# Altium footprint library Footprints.PcbLib: 67 footprints (part 4 of 5)
Each footprint in its own frame and in the unit in brackets; x right, y up, seen from the top. Pads: shape width x height; smd on the part's side, far side on the other; paste and mask are expansions set on the pad; w line width, h text height; cw(c..) or ccw(c..) is an arc to the next point about the centre after c.
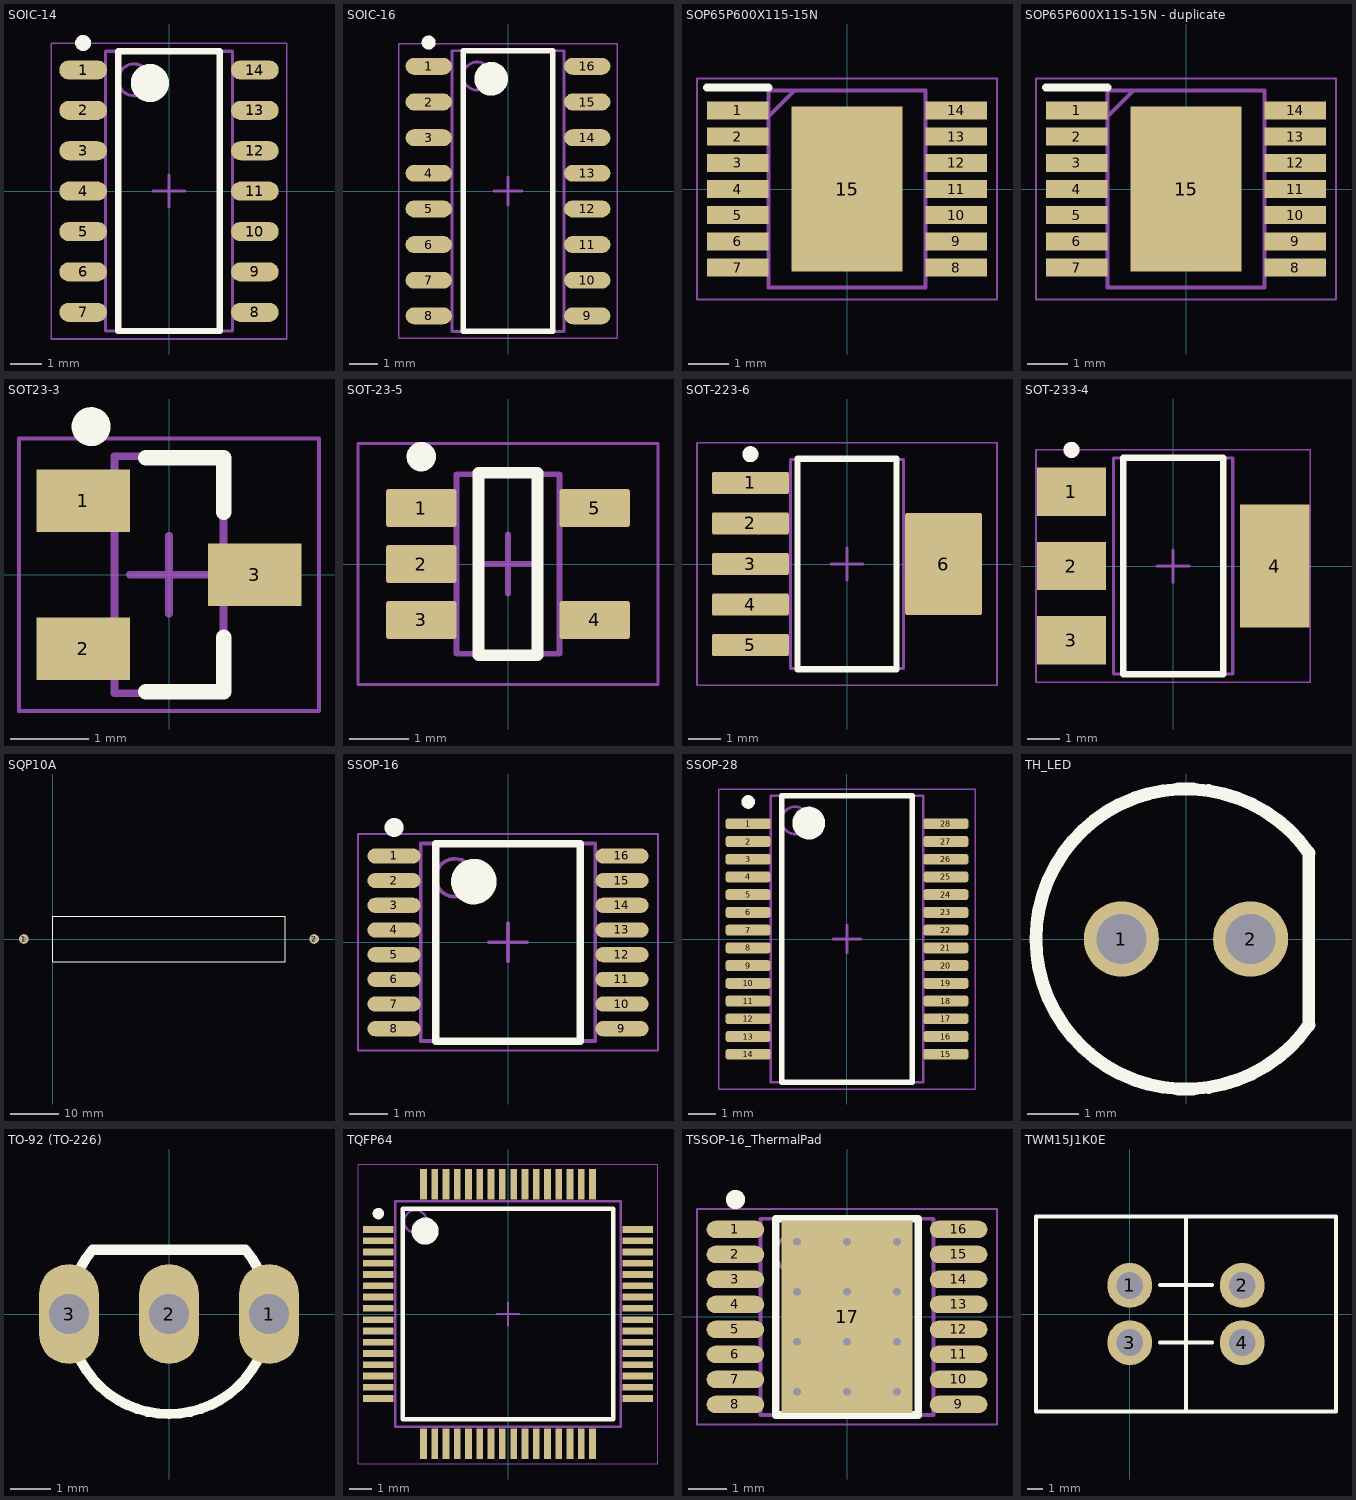
[diagram p3: the footprints below, top view; thin cyan lines are the x and y axes]

## SOIC-14 [mm] "SOIC, 14-Leads, Body 8.65x3.90mm, Pitch 1.27mm, IPC Medium Density"
height 1.75
pads (14):
  oval 1.5x0.6 smd: 1(-2.7,3.81) 2(-2.7,2.54) 3(-2.7,1.27) 4(-2.7,0) 5(-2.7,-1.27) 6(-2.7,-2.54) 7(-2.7,-3.81) 8(2.7,-3.81) 9(2.7,-2.54) 10(2.7,-1.27) 11(2.7,0) 12(2.7,1.27) 13(2.7,2.54) 14(2.7,3.81)
Top Overlay:
  circle w0.6: c-0.6,3.4 r0.3
  circle w0.25: c-2.7,4.66 r0.125
  lines w0.2: -1.6,-4.4 1.6,-4.4 1.6,4.4 -1.6,4.4 -1.6,-4.4
Mechanical 13:
  circle w0.1: c-1.1,3.5 r0.5
  lines w0.1: -2,-4.4 2,-4.4 2,4.4 -2,4.4 -2,-4.4
Mechanical 15:
  lines w0.05: -3.7,-4.65 3.7,-4.65 3.7,4.65 -3.7,4.65 -3.7,-4.65
  lines w0.1: -0.5,0 0.5,0 ; 0,-0.5 0,0.5
3D body "SOIC-14.step": height 1.75, standoff 0, extent -3,-4.4 3,4.4

## SOIC-16 [mm] "SOIC, 16-Leads, Body 9.90x3.90mm, Pitch 1.27mm, IPC Medium Density"
height 1.75
pads (16):
  oval 1.65x0.6 smd: 1(-2.825,4.445) 2(-2.825,3.175) 3(-2.825,1.905) 4(-2.825,0.635) 5(-2.825,-0.635) 6(-2.825,-1.905) 7(-2.825,-3.175) 8(-2.825,-4.445) 9(2.825,-4.445) 10(2.825,-3.175) 11(2.825,-1.905) 12(2.825,-0.635) 13(2.825,0.635) 14(2.825,1.905) 15(2.825,3.175) 16(2.825,4.445)
Top Overlay:
  circle w0.6: c-0.6,4 r0.3
  circle w0.25: c-2.825,5.295 r0.125
  lines w0.2: -1.6,-5 1.6,-5 1.6,5 -1.6,5 -1.6,-5
Mechanical 13:
  circle w0.1: c-1.1,4.1 r0.5
  lines w0.1: -2,-5 2,-5 2,5 -2,5 -2,-5
Mechanical 15:
  lines w0.05: -3.9,-5.25 3.9,-5.25 3.9,5.25 -3.9,5.25 -3.9,-5.25
  lines w0.1: -0.5,0 0.5,0 ; 0,-0.5 0,0.5
3D body "SOIC127P650X175-16N.step": height 1.75, standoff 0, extent -3.23,-5 3.23,5

## SOP65P600X115-15N [mm]
pads (15):
  rect 1.525x0.45 smd: 1(-2.712,1.95) 2(-2.712,1.3) 3(-2.712,0.65) 4(-2.712,0) 5(-2.712,-0.65) 6(-2.712,-1.3) 7(-2.712,-1.95) 8(2.712,-1.95) 9(2.712,-1.3) 10(2.712,-0.65) 11(2.712,0) 12(2.712,0.65) 13(2.712,1.3) 14(2.712,1.95)
  rect 2.75x4.1 smd: 15(0,0)
Top Overlay:
  lines w0.2: -3.475,2.525 -1.95,2.525
Mechanical 15:
  lines w0.1: -1.95,1.8 -1.3,2.45 ; -1.95,-2.45 1.95,-2.45 1.95,2.45 -1.95,2.45 -1.95,-2.45
Mechanical 20:
  lines w0.05: -3.725,-2.75 3.725,-2.75 3.725,2.75 -3.725,2.75 -3.725,-2.75

## SOP65P600X115-15N - duplicate [mm]
pads (15):
  rect 1.525x0.45 smd: 1(-2.712,1.95) 2(-2.712,1.3) 3(-2.712,0.65) 4(-2.712,0) 5(-2.712,-0.65) 6(-2.712,-1.3) 7(-2.712,-1.95) 8(2.712,-1.95) 9(2.712,-1.3) 10(2.712,-0.65) 11(2.712,0) 12(2.712,0.65) 13(2.712,1.3) 14(2.712,1.95)
  rect 2.75x4.1 smd: 15(0,0)
Top Overlay:
  lines w0.2: -3.475,2.525 -1.95,2.525
Mechanical 15:
  lines w0.1: -1.95,1.8 -1.3,2.45 ; -1.95,-2.45 -1.95,2.45 1.95,2.45 1.95,-2.45 -1.95,-2.45
Mechanical 20:
  lines w0.05: -3.725,-2.75 -3.725,2.75 3.725,2.75 3.725,-2.75 -3.725,-2.75

## SOT23-3 [mm] "SOT23, 3-Leads, Body 2.92x2.37mm, Pitch 0.95mm, IPC Medium Density, NUP2105L"
height 1.11
pads (3):
  rect 1.2x0.8 smd: 1(-1.1,0.95) 2(-1.1,-0.95) 3(1.1,0)
Top Overlay:
  circle w0.25: c-1,1.9 r0.125
  lines w0.2: -0.3,-1.5 0.7,-1.5 0.7,-0.8 ; -0.3,1.5 0.7,1.5 0.7,0.8
Mechanical 13:
  lines w0.1: -0.7,-1.52 0.7,-1.52 0.7,1.52 -0.7,1.52 -0.7,-1.52
Mechanical 15:
  lines w0.05: -1.925,-1.75 1.925,-1.75 1.925,1.75 -1.925,1.75 -1.925,-1.75
  lines w0.1: -0.5,0 0.5,0 ; 0,-0.5 0,0.5
3D body "SOT23-3 Test.step": height 1.25, standoff 0, extent -1.5,-1.5 1.5,1.5

## SOT-23-5 [mm] "SOT23, 5-Leads, Body 3.05x1.75mm, Pitch 0.95mm, IPC Low Density"
height 1.45
pads (5):
  rrect15% 1.2x0.65 smd: 1(-1.475,0.95) 2(-1.475,0) 3(-1.475,-0.95) 4(1.475,-0.95) 5(1.475,0.95)
Top Overlay:
  circle w0.25: c-1.475,1.825 r0.125
  lines w0.2: -0.5,-1.55 -0.5,1.55 0.5,1.55 0.5,-1.55 -0.5,-1.55
Mechanical 1:
  text ".Designator" at -0.635,-0.127 h0.4
Mechanical 13:
  lines w0.1: -0.875,-1.525 0.875,-1.525 0.875,1.525 -0.875,1.525 -0.875,-1.525
Mechanical 15:
  lines w0.05: -2.55,-2.05 2.55,-2.05 2.55,2.05 -2.55,2.05 -2.55,-2.05
  lines w0.1: -0.5,0 0.5,0 ; 0,-0.5 0,0.5
3D body "DBV0005AaksMF05A.stp": height 1.08, standoff -0.01, extent -1.422,-1.461 1.422,1.46

## SOT-223-6 [mm] "SOT223, 6-Leads, Body 6.55x3.55mm, Pitch 1.27mm, IPC Low Density"
height 1.8
pads (6):
  rrect14% 2.4x0.7 smd: 1(-3.025,2.54) 2(-3.025,1.27) 3(-3.025,0) 4(-3.025,-1.27) 5(-3.025,-2.54)
  rrect4% 2.4x3.2 smd: 6(3.025,0)
Top Overlay:
  circle w0.25: c-3.025,3.44 r0.125
  lines w0.2: -1.55,-3.3 1.55,-3.3 1.55,3.3 -1.55,3.3 -1.55,-3.3
Mechanical 1:
  text ".Designator" at -1.397,-0.381 h0.8
Mechanical 13:
  lines w0.1: -1.775,-3.275 1.775,-3.275 1.775,3.275 -1.775,3.275 -1.775,-3.275
Mechanical 15:
  lines w0.05: -4.7,-3.8 4.7,-3.8 4.7,3.8 -4.7,3.8 -4.7,-3.8
  lines w0.1: -0.5,0 0.5,0 ; 0,-0.5 0,0.5
3D body "DCQ0006AakaMP06A.stp": height 1.64, standoff -0.04, extent -3.48,-3.25 3.48,3.25

## SOT-233-4 [mm] "SOT223, 4-Leads, Body 6.50x7.00mm (avg), Pitch 2.30mm, IPC Medium Density"
height 1.8
pads (4):
  rect 2.15x1.5 smd: 1(-3.15,2.3) 2(-3.15,0) 3(-3.15,-2.3)
  rect 2.15x3.8 smd: 4(3.15,0)
Top Overlay:
  circle w0.25: c-3.15,3.6 r0.125
  lines w0.2: -1.55,-3.35 -1.55,3.35 1.55,3.35 1.55,-3.35 -1.55,-3.35
Mechanical 13:
  lines w0.1: -1.85,-3.35 -1.85,3.35 1.85,3.35 1.85,-3.35 -1.85,-3.35
Mechanical 15:
  lines w0.05: -4.25,-3.6 -4.25,3.6 4.25,3.6 4.25,-3.6 -4.25,-3.6
  lines w0.1: -0.5,0 0.5,0 ; 0,-0.5 0,0.5
3D body "SOT230P700X180-4N.step": height 1.8, standoff 0, extent -3.5,-3.35 3.5,3.35

## SQP10A [mm]
pads (2):
  round 2 hole 1: 1(-6,0) 2(54,0)
Top Overlay:
  lines w0.254: 0,-4.75 48,-4.75 48,4.75 0,4.75 0,-4.75
3D body "SQP10A.STEP": height 9, standoff -3, extent -6.4,-4.75 54.4,4.75

## SSOP-16 [mm] "SSOP, 16-Leads, Body 5.00x4.40mm, Pitch 0.65mm, IPC Medium Density"
height 1.2
pads (16):
  oval 1.4x0.4 smd: 1(-3,2.275) 2(-3,1.625) 3(-3,0.975) 4(-3,0.325) 5(-3,-0.325) 6(-3,-0.975) 7(-3,-1.625) 8(-3,-2.275) 9(3,-2.275) 10(3,-1.625) 11(3,-0.975) 12(3,-0.325) 13(3,0.325) 14(3,0.975) 15(3,1.625) 16(3,2.275)
Top Overlay:
  circle w0.6: c-0.9,1.6 r0.3
  circle w0.25: c-3,3.025 r0.125
  lines w0.2: -1.9,-2.6 1.9,-2.6 1.9,2.6 -1.9,2.6 -1.9,-2.6
Mechanical 13:
  circle w0.1: c-1.4,1.7 r0.5
  lines w0.1: -2.3,-2.6 2.3,-2.6 2.3,2.6 -2.3,2.6 -2.3,-2.6
Mechanical 15:
  lines w0.05: -3.95,-2.85 3.95,-2.85 3.95,2.85 -3.95,2.85 -3.95,-2.85
  lines w0.1: -0.5,0 0.5,0 ; 0,-0.5 0,0.5
3D body "SSOP-16.step": height 1.2, standoff 0, extent -3.2,-2.6 3.2,2.6

## SSOP-28 [mm] "hi"
height 2
pads (28):
  rrect50% 1.65x0.4 smd: 1(-3.625,4.225) 2(-3.625,3.575) 3(-3.625,2.925) 4(-3.625,2.275) 5(-3.625,1.625) 6(-3.625,0.975) 7(-3.625,0.325) 8(-3.625,-0.325) 9(-3.625,-0.975) 10(-3.625,-1.625) 11(-3.625,-2.275) 12(-3.625,-2.925) 13(-3.625,-3.575) 14(-3.625,-4.225) 15(3.625,-4.225) 16(3.625,-3.575) 17(3.625,-2.925) 18(3.625,-2.275) 19(3.625,-1.625) 20(3.625,-0.975) 21(3.625,-0.325) 22(3.625,0.325) 23(3.625,0.975) 24(3.625,1.625) 25(3.625,2.275) 26(3.625,2.925) 27(3.625,3.575) 28(3.625,4.225)
Top Overlay:
  circle w0.25: c-3.625,5.025 r0.125
  circle w0.6: c-1.4,4.25 r0.3
  lines w0.2: -2.4,-5.25 -2.4,5.25 2.4,5.25 2.4,-5.25 -2.4,-5.25
Mechanical 13:
  circle w0.1: c-1.9,4.35 r0.5
  lines w0.1: -2.8,-5.25 -2.8,5.25 2.8,5.25 2.8,-5.25 -2.8,-5.25
Mechanical 15:
  lines w0.05: -4.7,-5.5 -4.7,5.5 4.7,5.5 4.7,-5.5 -4.7,-5.5
  lines w0.1: -0.5,0 0.5,0 ; 0,-0.5 0,0.5
3D body "SSOP-28.step": height 2, standoff 0, extent -3.9,-5.25 3.9,5.25

## TH_LED [mm]
pads (2):
  round 1.48 hole 0.98: 1(-1.27,0) 2(1.27,0)
Top Overlay:
  lines w0.25: 2.413,-1.651 2.413,1.651
  lines w0.254: 2.416,-1.692 cw(c0,0) 2.416,1.692
3D body "LED 5mm.STEP": height 8.8, standoff -27, extent -3,-3 2.5,3

## TO-92 (TO-226) [mm]
pads (3):
  oval 1.5x2.5 hole 1: 1(2.5,0) 2(0,0) 3(-2.5,0)
Top Overlay:
  lines w0.254: -1.915,1.607 ccw(c0,0) 1.915,1.607 -1.915,1.607
3D body "TO-92(-£-¦-Ç-¦-¦ -¦-+-Ç-+-â-ü-¦).STEP": height 7.37, standoff -3, extent -2.79,-2.48 2.79,0.96

## TQFP64 [mm] "TSQFP, 64-Leads, Body 10.00x10.00mm, Pitch 0.50mm, IPC Medium Density, MKE18F512VLH16"
height 1.6
pads (64):
  rect 1.35x0.3 smd: 1(-5.75,3.75) 2(-5.75,3.25) 3(-5.75,2.75) 4(-5.75,2.25) 5(-5.75,1.75) 6(-5.75,1.25) 7(-5.75,0.75) 8(-5.75,0.25) 9(-5.75,-0.25) 10(-5.75,-0.75) 11(-5.75,-1.25) 12(-5.75,-1.75) 13(-5.75,-2.25) 14(-5.75,-2.75) 15(-5.75,-3.25) 16(-5.75,-3.75) 33(5.75,-3.75) 34(5.75,-3.25) 35(5.75,-2.75) 36(5.75,-2.25) 37(5.75,-1.75) 38(5.75,-1.25) 39(5.75,-0.75) 40(5.75,-0.25) 41(5.75,0.25) 42(5.75,0.75) 43(5.75,1.25) 44(5.75,1.75) 45(5.75,2.25) 46(5.75,2.75) 47(5.75,3.25) 48(5.75,3.75)
  rect 0.3x1.35 smd: 17(-3.75,-5.75) 18(-3.25,-5.75) 19(-2.75,-5.75) 20(-2.25,-5.75) 21(-1.75,-5.75) 22(-1.25,-5.75) 23(-0.75,-5.75) 24(-0.25,-5.75) 25(0.25,-5.75) 26(0.75,-5.75) 27(1.25,-5.75) 28(1.75,-5.75) 29(2.25,-5.75) 30(2.75,-5.75) 31(3.25,-5.75) 32(3.75,-5.75) 49(3.75,5.75) 50(3.25,5.75) 51(2.75,5.75) 52(2.25,5.75) 53(1.75,5.75) 54(1.25,5.75) 55(0.75,5.75) 56(0.25,5.75) 57(-0.25,5.75) 58(-0.75,5.75) 59(-1.25,5.75) 60(-1.75,5.75) 61(-2.25,5.75) 62(-2.75,5.75) 63(-3.25,5.75) 64(-3.75,5.75)
Top Overlay:
  circle w0.25: c-5.75,4.45 r0.125
  circle w0.6: c-3.675,3.675 r0.3
  lines w0.2: -4.675,-4.675 -4.675,4.675 4.675,4.675 4.675,-4.675 -4.675,-4.675
Mechanical 13:
  circle w0.1: c-4.1,4.1 r0.5
  lines w0.1: -5,-5 -5,5 5,5 5,-5 -5,-5
Mechanical 15:
  lines w0.05: -6.65,-6.65 -6.65,6.65 6.65,6.65 6.65,-6.65 -6.65,-6.65
  lines w0.1: -0.5,0 0.5,0 ; 0,-0.5 0,0.5
3D body "TSQFP50P1200X1200X160-64N.step": height 1.6, standoff 0, extent -6,-6 6,6

## TSSOP-16_ThermalPad [mm] "TSOP, 16-Leads, Body 5.00x4.40mm, Pitch 0.65mm, Thermal Pad 2.46x2.66mm, IPC Medium Density"
height 1.2
pads (17):
  oval 1.5x0.45 smd mask+0.1: 1(-2.9,2.275) 2(-2.9,1.625) 3(-2.9,0.975) 4(-2.9,0.325) 5(-2.9,-0.325) 6(-2.9,-0.975) 7(-2.9,-1.625) 8(-2.9,-2.275) 9(2.9,-2.275) 10(2.9,-1.625) 11(2.9,-0.975) 12(2.9,-0.325) 13(2.9,0.325) 14(2.9,0.975) 15(2.9,1.625) 16(2.9,2.275)
  rect 3.4x5 smd mask+0: 17(0,0)
via 0,-0.65 diameter 0.5 hole 0.2
via 0,0.65 diameter 0.5 hole 0.2
via 0,-1.95 diameter 0.5 hole 0.2
via 0,1.95 diameter 0.5 hole 0.2
via 1.3,-0.65 diameter 0.5 hole 0.2
via 1.3,0.65 diameter 0.5 hole 0.2
via 1.3,-1.95 diameter 0.5 hole 0.2
via 1.3,1.95 diameter 0.5 hole 0.2
via -1.3,-0.65 diameter 0.5 hole 0.2
via -1.3,0.65 diameter 0.5 hole 0.2
via -1.3,-1.95 diameter 0.5 hole 0.2
via -1.3,1.95 diameter 0.5 hole 0.2
Top Overlay:
  circle w0.25: c-2.9,3.05 r0.125
  lines w0.2: -1.85,-2.55 -1.85,2.55 1.85,2.55 1.85,-2.55 -1.85,-2.55
Top Solder:
  region: -1.33,-0.92 -1.33,0.92 -1.33,0.982 -1.283,1.096 -1.196,1.183 -1.082,1.23 -1.02,1.23 1.02,1.23 1.082,1.23 1.196,1.183 1.283,1.096 1.33,0.982 1.33,0.92 1.33,-0.92 1.33,-0.982 1.283,-1.096 1.196,-1.183 1.082,-1.23 1.02,-1.23 -1.02,-1.23 -1.082,-1.23 -1.196,-1.183 -1.283,-1.096 -1.33,-0.982
Mechanical 13:
  circle w0.1: c-1.35,1.65 r0.5
  lines w0.1: -2.25,-2.55 -2.25,2.55 2.25,2.55 2.25,-2.55 -2.25,-2.55
Mechanical 15:
  lines w0.05: -3.9,-2.8 -3.9,2.8 3.9,2.8 3.9,-2.8 -3.9,-2.8
  lines w0.1: -0.5,0 0.5,0 ; 0,-0.5 0,0.5
3D body "TSSOP-16_ThermalPad.step": height 1.2, standoff 0, extent -3.2,-2.55 3.2,2.55

## TWM15J1K0E [mm]
pads (4):
  round 3 hole 1.8: 1(0,1.905) 2(7.5,1.905) 3(0,-1.905) 4(7.5,-1.905)
Top Overlay:
  lines w0.254: 2,-1.905 3.735,-1.905 5.5,-1.905 ; 2,1.93 3.76,1.93 5.5,1.93 ; 3.75,-6.5 3.75,6.5 ; -6.25,-6.5 13.75,-6.5 13.75,6.5 -6.25,6.5 -6.25,-6.5
3D body: height 39, standoff 0, extent -6.75,-6.75 14.25,6.75